# EAGLE library part LMV772 (library NASA_LIB)
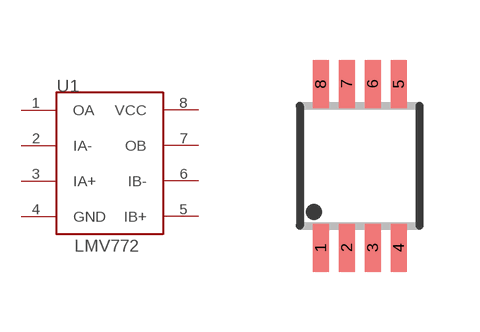
[diagram p12: symbol with the pads of MSOP8; footprint MSOP8]

Designator prefix U1

## LMV772  [MSOP8]
1  OA
2  IA-
3  IA+
4  GND
5  IB+
6  IB-
7  OB
8  VCC

## Footprint MSOP8 (pad centres in mm)
smd 0.4 x 1.2: 1 -0.975,-2.05; 2 -0.325,-2.05; 3 0.325,-2.05; 4 0.975,-2.05; 5 0.975,2.05; 6 0.325,2.05; 7 -0.325,2.05; 8 -0.975,2.05